# Altium footprint library Power_ICs.PcbLib: 6 footprints
Each footprint in its own frame and in the unit in brackets; x right, y up, seen from the top. Pads: shape width x height; smd on the part's side, far side on the other; paste and mask are expansions set on the pad; w line width, h text height; cw(c..) or ccw(c..) is an arc to the next point about the centre after c.
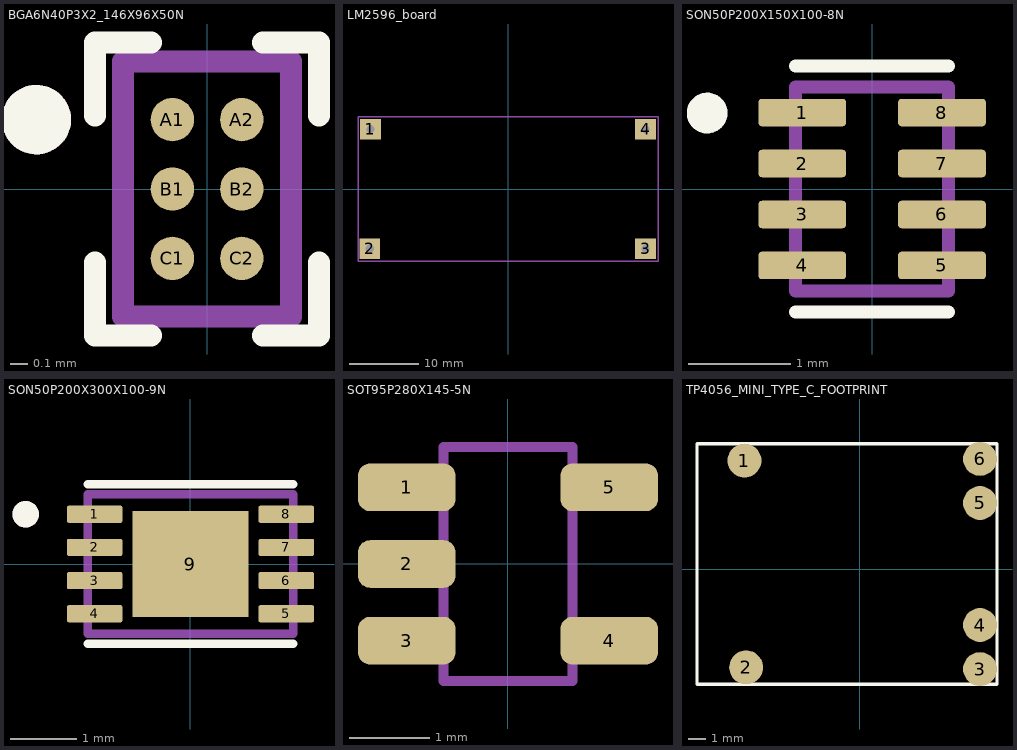
[diagram p0: the footprints below, top view; thin cyan lines are the x and y axes]

## BGA6N40P3X2_146X96X50N [mm]
pads (6):
  round 0.25 smd mask+0.05: A1(-0.2,0.4) A2(0.2,0.4) B1(-0.2,0) B2(0.2,0) C1(-0.2,-0.4) C2(0.2,-0.4)
Top Overlay:
  circle w0.2: c-0.984,0.4 r0.1
  lines w0.127: -0.645,-0.423 -0.645,-0.845 -0.323,-0.845 ; -0.645,0.423 -0.645,0.845 -0.323,0.845 ; 0.323,-0.845 0.645,-0.845 0.645,-0.423 ; 0.323,0.845 0.645,0.845 0.645,0.423
Top Solder:
  region: -0.375,0.575 -0.375,-0.175 -0.375,-0.575 0.375,-0.575 0.375,0.575
Mechanical 13:
  circle w0.2: c-0.984,0.4 r0.1
  lines w0.127: -0.484,-0.734 -0.484,0.734 0.484,0.734 0.484,-0.734 -0.484,-0.734
3D body "step_temp.STEP": height 0.5, standoff 0, extent -0.484,-0.734 0.484,0.734

## LM2596_board [mm] "LM2596 DC-DC step up power modul / 43x21 mm"
pads (4):
  rect 3x3 hole 1.2 mask+1: 1(-19.8,8.6) 2(-19.9,-8.6) 3(19.8,-8.6) 4(19.8,8.6)
Mechanical 13:
  lines w0.2: -21.6,-10.4 21.6,-10.4 21.6,10.4 -21.6,10.4 -21.6,-10.4
3D body: height 2.5, standoff 0, extent -21.6,-10.408 21.6,10.4

## SON50P200X150X100-8N [mm]
pads (8):
  rrect25% 0.86x0.27 smd: 1(-0.685,0.75) 2(-0.685,0.25) 3(-0.685,-0.25) 4(-0.685,-0.75) 5(0.685,-0.75) 6(0.685,-0.25) 7(0.685,0.25) 8(0.685,0.75)
Top Overlay:
  circle w0.2: c-1.617,0.745 r0.1
  lines w0.127: -0.75,-1.205 0.75,-1.205 ; -0.75,1.205 0.75,1.205
Top Solder:
  region: -1.225,0.9 -1.225,-0.9 -0.15,-0.9 -0.15,0.9
  region: 0.15,0.9 0.15,-0.9 1.225,-0.9 1.225,0.9
Mechanical 13:
  lines w0.127: -0.75,-1 -0.75,1 0.75,1 0.75,-1 -0.75,-1
3D body "TPS62840DLCR--3D.STEP": height 1, standoff 0, extent -0.75,-1 0.75,1

## SON50P200X300X100-9N [mm]
pads (9):
  rrect25% 0.84x0.26 smd paste+0 mask+0.102: 1(-1.445,0.75) 2(-1.445,0.25) 3(-1.445,-0.25) 4(-1.445,-0.75) 5(1.445,-0.75) 6(1.445,-0.25) 7(1.445,0.25) 8(1.445,0.75)
  rect 1.75x1.6 smd paste-2 mask+0.102: 9(0,0)
Top Overlay:
  circle w0.2: c-2.485,0.75 r0.1
  lines w0.127: -1.55,-1.2 1.55,-1.2 ; -1.55,1.2 1.55,1.2
Top Paste:
  region: 0.55,-0.51 -0.55,-0.51 -0.55,0.51 0.55,0.51
Top Solder:
  region: -1.95,-0.975 -0.975,-0.975 -0.975,0.975 -1.95,0.975
  region: 0.962,-0.975 1.938,-0.975 1.938,0.975 0.962,0.975
Mechanical 13:
  circle w0.2: c-2.485,0.75 r0.1
  lines w0.127: -1.55,-1.05 -1.55,1.05 1.55,1.05 1.55,-1.05 -1.55,-1.05
3D body "step_temp.STEP": height 1, standoff 0, extent -1.5,-1 1.5,1

## SOT95P280X145-5N [mm]
pads (5):
  rrect50% 1.21x0.59 smd: 1(-1.255,0.95) 2(-1.255,0) 3(-1.255,-0.95) 4(1.255,-0.95) 5(1.255,0.95)
Mechanical 13:
  lines w0.127: -0.8,-1.45 0.8,-1.45 0.8,1.45 -0.8,1.45 -0.8,-1.45
3D body "step_temp.STEP": height 1.45, standoff 0, extent -1.4,-1.45 1.4,1.45

## TP4056_MINI_TYPE_C_FOOTPRINT [mm]
pads (6):
  round 2 smd: 1(-6.8,6.4) 2(-6.7,-5.8) 3(7.1,-5.9) 4(7.1,-3.3) 5(7.1,3.9) 6(7.1,6.5)
Top Overlay:
  lines w0.2: -9.6,-6.8 8.1,-6.8 8.1,7.4 -9.6,7.4 -9.6,-6.8
3D body "TP4056 Mini.SLDPRT": height 4.22, standoff -0.02, extent -11.4,-6.7 8,7.3